# Altium schematic symbol library Amin-Library_S2.SCHLIB: 29 symbols
Pins are listed as number, name and electrical type; pins without a type are passive.

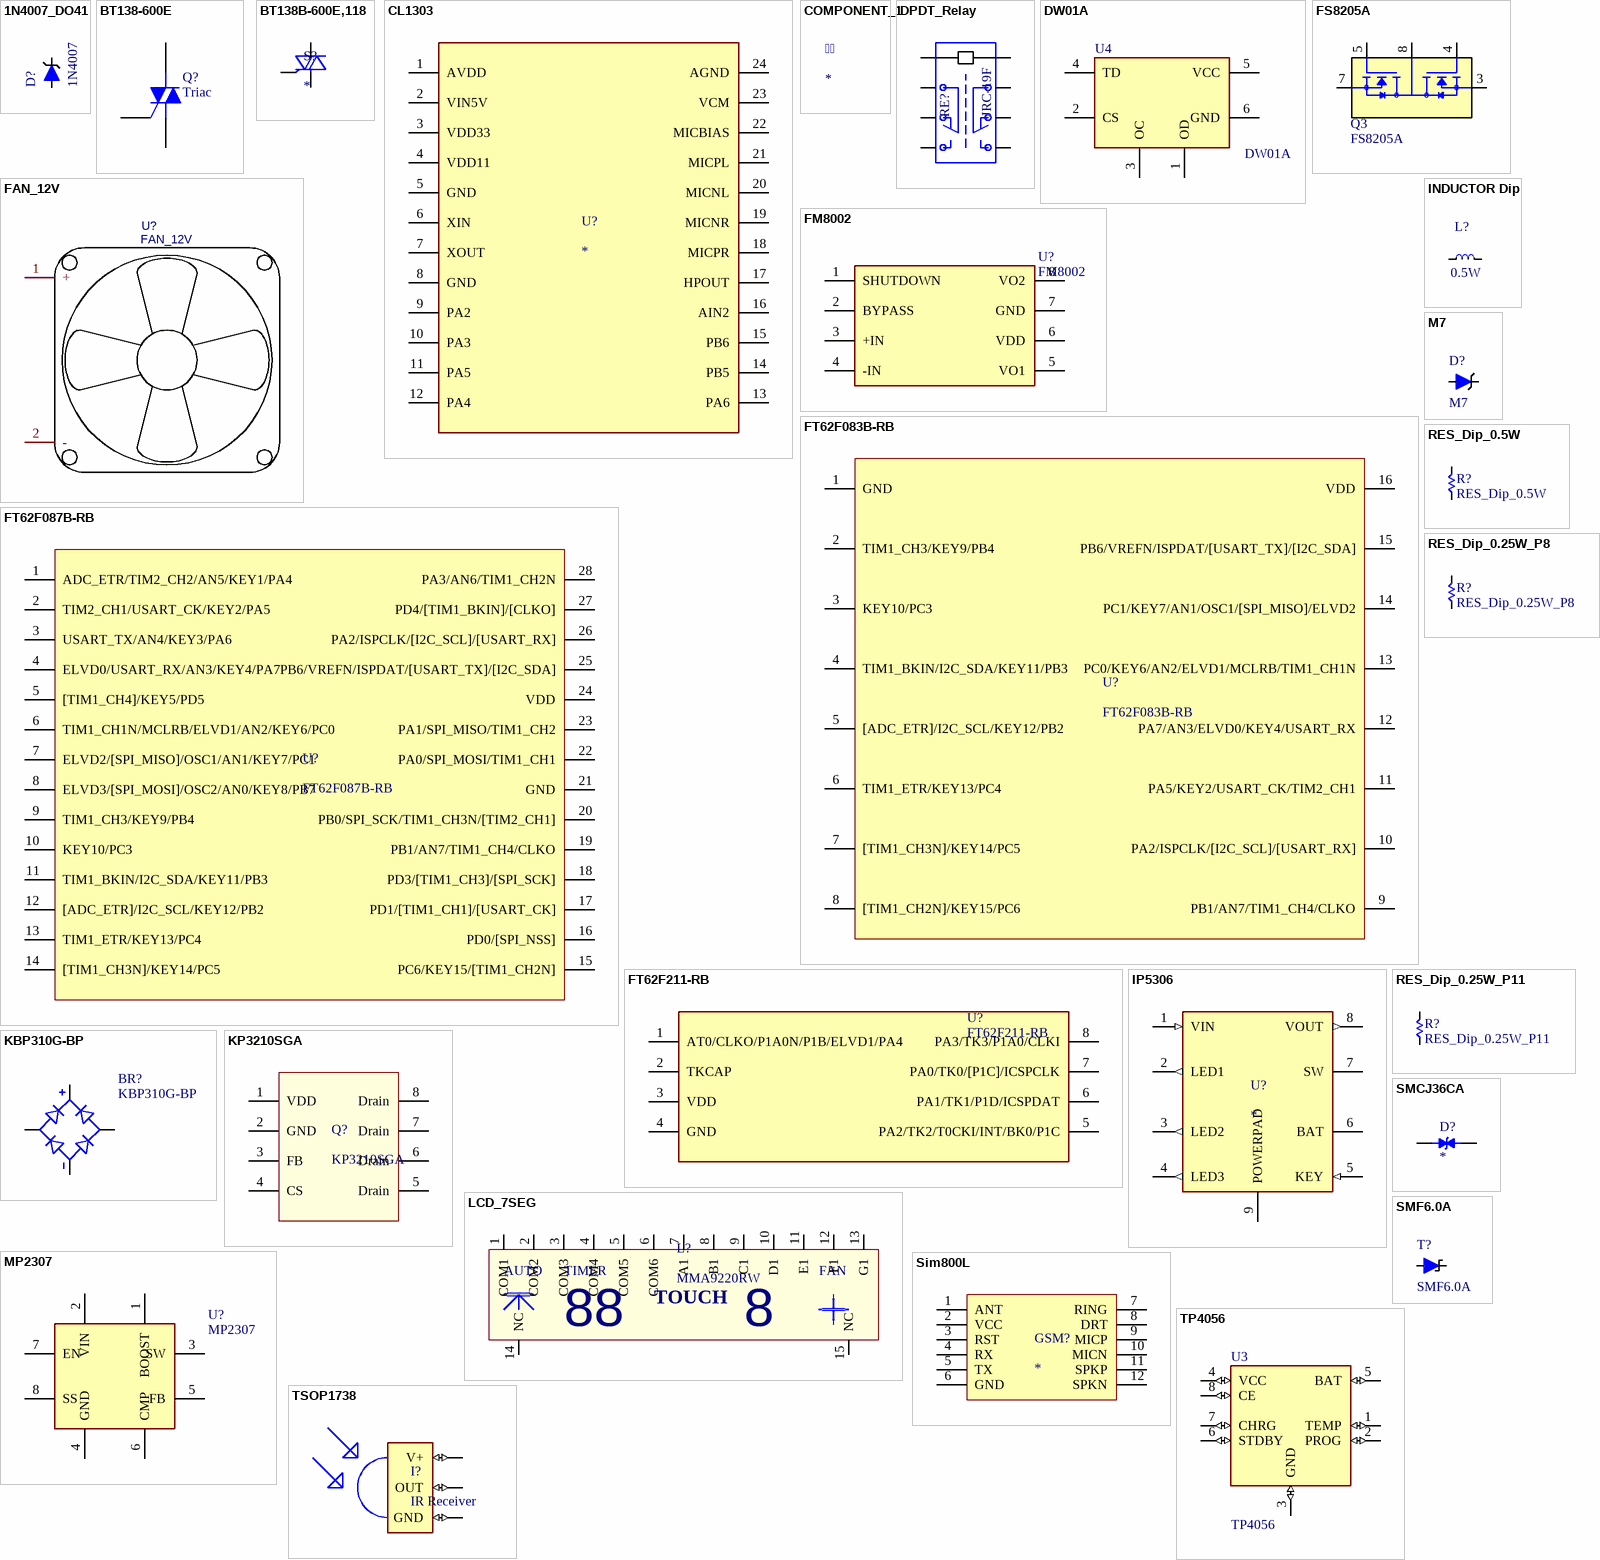
[diagram p0: symbols 1N4007_DO41 to TSOP1738]

## 1N4007_DO41
designator D?, comment 1N4007
1N4007 DO-41; MP: EDZV12B; MF: ROHM Semiconductor; Price: None; Package: None; SnapEDA_Link: https://www.snapeda.com/parts/EDZV12B/EMI/view-part/4479349/?ref=snap; Availability: Unavailable; Value: *
footprint 1N4007_DO41 (DO41)
pins: 1 A, 2 C

## BT138-600E
designator Q?, comment Triac
Silicon Bidirectional Triode Thyristor; Note: Pin 2 is electrically connected to Pin 4 (TAB); Published: 29-Sep-2000; LatestRevisionDate: 17-Jul-2002; LatestRevisionNote: Re-released for DXP Platform.; DatasheetVersion: 1999; PackageReference: 369-03; Publisher: Altium Limited; PackageDescription: TO, Thru-Hole, Vertical, Heatsink Mounted; 3 In-Line Leads; Pitch 2.28 mm; ComponentLink1Description: Manufacturer Link; ComponentLink1URL: http://www.motorola.com/
footprint 369-03 (TO, Thru-Hole, Vertical, Heatsink Mounted; 3 In-Line Leads; Pitch 2.28 mm)
simulation model MAC15A8 (Spice Subcircuit)
footprint TO254P450X1020X1935-3P
pins: 1 M1, 2 M2, 3 G

## BT138B-600E,118
designator S?
TRIAC Logic - Sensitive Gate 600 V 12 A Surface Mount D2PAK; MF: WeEn Semiconductor(Hong Kong)Co.,Limited; MP: BT138B-600E,118; SnapEDA_Link: https://www.snapeda.com/parts/BT138B-600E,118/WeEn+Semiconductors/view-part/?ref=snap; Package: D2PAK WeEn Semiconductors; Value: *; Check_prices: https://www.snapeda.com/parts/BT138B-600E,118/WeEn+Semiconductors/view-part/?ref=eda
footprint BT138B-600E (D2PAK)
footprint BT138B-600E Dip (TO-220AB)
pins: 1 T1, 2 T2, 3 G

## CL1303
designator U?
High Performance Automatic Speech Recognition processor; Manufacturer_Name: Holtek; Manufacturer_Part_Number: BS66F360; Datasheet Link: https://4donline.ihs.com/images/VipMasterIC/IC/HOLS/HOLS-S-A0013887567/HOLS-S-A0013919017-1.pdf?hkey=EF798316E3902B6ED9A73243A3159BB0; Height: 1.6mm
footprint CL1303 (SOP24)
pins: 1 AVDD, 2 VIN5V, 3 VDD33, 4 VDD11, 5 GND, 6 XIN, 7 XOUT, 8 GND, 9 PA2, 10 PA3, 11 PA5, 12 PA4, 13 PA6, 14 PB5, 15 PB6, 16 AIN2, 17 HPOUT, 18 MICPR, 19 MICNR, 20 MICNL, 21 MICPL, 22 MICBIAS, 23 VCM, 24 AGND

## COMPONENT_1
designator 

## DPDT_Relay
designator RE?, comment JRC-19F
DPDT_Relay; MP: EDZV12B; MF: ROHM Semiconductor; Price: None; Package: None; SnapEDA_Link: https://www.snapeda.com/parts/EDZV12B/EMI/view-part/4479349/?ref=snap; Availability: Unavailable; Value: *
footprint DPDT_Relay
pins: 1, 4, 6, 8, 9, 11, 13, 16

## DW01A
designator U4
Litium Battery Protection; MF: Fortune Semiconductor; Price: None; Availability: Unavailable; Package: Package Analog Devices; SnapEDA_Link: https://www.snapeda.com/parts/DW01A/Fortune%20Semiconductor/view-part/4388554/?ref=snap; MP: DW01A; Value: *
footprint DW01A
pins: 1 OD, 2 CS, 3 OC, 4 TD, 5 VCC (power), 6 GND (power)

## FAN_12V
designator U?
FAN 12V 40*40*10mm . XH Connector; Contributor: novasilisko; timeStamp: 1467237407; Manufacturer Part: ?; spicePre: U
footprint FAN_Connector XH (FAN_Connector XH 2.54mm)
pins: 1 +, 2 -

## FM8002
designator U?
PWM/PFM controlled DC-DC buck regulator; MP: MP2307; MF: Monolithic Power; Price: None; Package: SOIC-8 Monolithic Power; Availability: Unavailable; SnapEDA_Link: https://www.snapeda.com/parts/MP2307/Monolithic%20Power%20Systems%20Inc./view-part/2874586/?ref=snap; Value: *
footprint FM8002 (SOP8)
pins: 1 SHUTDOWN, 2 BYPASS, 3 +IN, 4 -IN, 5 VO1, 6 VDD, 7 GND, 8 VO2

## FS8205A
designator Q3
N-Channel Enhancement Mode MOSFET; MF: Fortune Semiconductor; Value: *; Price: None; Package: Package Analog Devices; SnapEDA_Link: https://www.snapeda.com/parts/FS8205A/Fortune%20Semiconductor/view-part/3217108/?ref=snap; Availability: Unavailable; MP: FS8205A
footprint FS8205A (TSSOP-8)
pins: 1 D12, 2 S1, 3 S1, 4 G1, 5 G2, 6 S2, 7 S2, 8 D12

## FT62F083B-RB
designator U?
8-bit Microcontrollers - MCU
footprint FT62F083B-RB (SOP16)
pins: 1 GND, 2 TIM1_CH3/KEY9/PB4, 3 KEY10/PC3, 4 TIM1_BKIN/I2C_SDA/KEY11/PB3, 5 [ADC_ETR]/I2C_SCL/KEY12/PB2, 6 TIM1_ETR/KEY13/PC4, 7 [TIM1_CH3N]/KEY14/PC5, 8 [TIM1_CH2N]/KEY15/PC6, 9 PB1/AN7/TIM1_CH4/CLKO, 10 PA2/ISPCLK/[I2C_SCL]/[USART_RX], 11 PA5/KEY2/USART_CK/TIM2_CH1, 12 PA7/AN3/ELVD0/KEY4/USART_RX, 13 PC0/KEY6/AN2/ELVD1/MCLRB/TIM1_CH1N, 14 PC1/KEY7/AN1/OSC1/[SPI_MISO]/ELVD2, 15 PB6/VREFN/ISPDAT/[USART_TX]/[I2C_SDA], 16 VDD

## FT62F087B-RB
designator U?
8-bit Microcontrollers - MCU
footprint FT62F087B-RB (SOT-28)
pins: 1 ADC_ETR/TIM2_CH2/AN5/KEY1/PA4, 2 TIM2_CH1/USART_CK/KEY2/PA5, 3 USART_TX/AN4/KEY3/PA6, 4 ELVD0/USART_RX/AN3/KEY4/PA7, 5 [TIM1_CH4]/KEY5/PD5, 6 TIM1_CH1N/MCLRB/ELVD1/AN2/KEY6/PC0, 7 ELVD2/[SPI_MISO]/OSC1/AN1/KEY7/PC1, 8 ELVD3/[SPI_MOSI]/OSC2/AN0/KEY8/PB7, 9 TIM1_CH3/KEY9/PB4, 10 KEY10/PC3, 11 TIM1_BKIN/I2C_SDA/KEY11/PB3, 12 [ADC_ETR]/I2C_SCL/KEY12/PB2, 13 TIM1_ETR/KEY13/PC4, 14 [TIM1_CH3N]/KEY14/PC5, 15 PC6/KEY15/[TIM1_CH2N], 16 PD0/[SPI_NSS], 17 PD1/[TIM1_CH1]/[USART_CK], 18 PD3/[TIM1_CH3]/[SPI_SCK], 19 PB1/AN7/TIM1_CH4/CLKO, 20 PB0/SPI_SCK/TIM1_CH3N/[TIM2_CH1], 21 GND, 22 PA0/SPI_MOSI/TIM1_CH1, 23 PA1/SPI_MISO/TIM1_CH2, 24 VDD, 25 PB6/VREFN/ISPDAT/[USART_TX]/[I2C_SDA], 26 PA2/ISPCLK/[I2C_SCL]/[USART_RX], 27 PD4/[TIM1_BKIN]/[CLKO], 28 PA3/AN6/TIM1_CH2N

## FT62F211-RB
designator U?
I/O type 8-bit microcontroller; MP: MP2307; MF: Monolithic Power; Price: None; Package: SOIC-8 Monolithic Power; Availability: Unavailable; SnapEDA_Link: https://www.snapeda.com/parts/MP2307/Monolithic%20Power%20Systems%20Inc./view-part/2874586/?ref=snap; Value: *
footprint FT62F211-RB (SOP8)
pins: 1 AT0/CLKO/P1A0N/P1B/ELVD1/PA4, 2 TKCAP, 3 VDD, 4 GND, 5 PA2/TK2/T0CKI/INT/BK0/P1C, 6 PA1/TK1/P1D/ICSPDAT, 7 PA0/TK0/[P1C]/ICSPCLK, 8 PA3/TK3/P1A0/CLKI

## INDUCTOR Dip
designator L?, comment 0.5W
Inductor Dip 0.5W; MP: DR127-330-R; MF: Eaton; Price: None; Package: Nonstandard Eaton; Availability: Unavailable; SnapEDA_Link: https://www.snapeda.com/parts/DR127-330-R/Eaton/view-part/?ref=snap; Value: *
footprint Inductor DIP Vertical
pins: 1, 2

## IP5306
designator U?
Fully-Integrated Power Bank System-On-Chip with 2.1A charger, 2.4A discharger; MF: Injoinic; MP: IP5306; SnapEDA_Link: https://www.snapeda.com/parts/IP5306/Injoinic/view-part/?ref=snap; Package: SOIC-4 INJOINIC; Value: *; Check_prices: https://www.snapeda.com/parts/IP5306/Injoinic/view-part/?ref=eda
footprint IP5306 (ESOP8)
pins: 1 VIN (in), 2 LED1 (out), 3 LED2 (out), 4 LED3 (out), 5 KEY (in), 6 BAT, 7 SW, 8 VOUT (out), 9 POWERPAD (power)

## KBP310G-BP
designator BR?
Bridge Rectifier KBP310G-BP; Manufacturer_Name: MDD£¨Microdiode Electronics£©; Manufacturer_Part_Number: KBPC1010; Datasheet Link: https://datasheet.lcsc.com/szlcsc/1903051202_MDD-Jiangsu-Yutai-Elec-KBPC1010_C3082.pdf; Height: 5.4mm
footprint KBP310G-BP
pins: 1 P, 2 AC1, 3 AC2, 4 N

## KP3210SGA
designator Q?
High Performance Low Cost Off-line PWM Power Switch; MF: Toshiba Semiconductor; MP: TPHR8504PL,L1Q; Package: SOP-8 Toshiba; Price: None; Value: *; SnapEDA_Link: https://www.snapeda.com/parts/TPHR8504PL,L1Q/Toshiba%20Semiconductor%20and%20Storage/view-part/604439/?ref=snap; Availability: Unavailable
footprint KP3210SGA (SOP-8)
pins: 1 VDD, 2 GND (power), 3 FB (power), 4 CS, 5 Drain, 6 Drain, 7 Drain, 8 Drain

## LCD_7SEG
designator L?, comment MMA9220RW
Custom LCD_7SEG MMA9220RW
footprint LCD-7SEG_Hood_MMA9220RW (MMA9220RW)
pins: 1 COM1, 2 COM2, 3 COM3, 4 COM4, 5 COM5, 6 COM6, 7 A1, 8 B1, 9 C1, 10 D1, 11 E1, 12 F1, 13 G1, 14 NC, 15 NC
text: AUTO; TIMER; FAN; TOUCH

## M7
designator D?
DO-214AC Package; MP: EDZV12B; MF: ROHM Semiconductor; Price: None; Package: None; SnapEDA_Link: https://www.snapeda.com/parts/EDZV12B/EMI/view-part/4479349/?ref=snap; Availability: Unavailable; Value: *
footprint M7 (DO214 variation AC. SMA)
pins: 1 A, 2 C

## MP2307
designator U?
Buck Switching Regulator IC Positive Adjustable 0.925V 1 Output 3A 8-SOIC (0.154, 3.90mm Width) Exposed Pad; MF: Monolithic Power; Price: None; Package: SOIC-8 Monolithic Power; MP: MP2307; Availability: Unavailable; SnapEDA_Link: https://www.snapeda.com/parts/MP2307/Monolithic%20Power%20Systems%20Inc./view-part/2874586/?ref=snap; Value: *
footprint MP2307 (SOIC8)
pins: 1 BOOST, 2 VIN, 3 SW, 4 GND, 5 FB, 6 CMP, 7 EN, 8 SS

## RES_Dip_0.5W
designator R?
Published: 8-Jun-2000; LatestRevisionDate: 29-May-2009; LatestRevisionNote: IPC-7351 Footprint Added.; PackageReference: J1-0603; Publisher: Altium Limited; PackageDescription: Chip Resistor
footprint RES DIP NTC
footprint RES DIP NTC Vertical
pins: 1, 2

## RES_Dip_0.25W_P8
designator R?
Published: 8-Jun-2000; LatestRevisionDate: 29-May-2009; LatestRevisionNote: IPC-7351 Footprint Added.; PackageReference: J1-0603; Publisher: Altium Limited; PackageDescription: Chip Resistor
footprint RES DIP NTC
footprint RES DIP NTC Vertical
footprint RES_DIP_0.25W P8
pins: 1, 2

## RES_Dip_0.25W_P11
designator R?
Published: 8-Jun-2000; LatestRevisionDate: 29-May-2009; LatestRevisionNote: IPC-7351 Footprint Added.; PackageReference: J1-0603; Publisher: Altium Limited; PackageDescription: Chip Resistor
footprint RES DIP NTC
footprint RES DIP NTC Vertical
footprint RES_DIP_0.25W P11
pins: 1, 2

## Sim800L
designator GSM?
footprint Sim800L
pins: 1 ANT, 2 VCC, 3 RST, 4 RX, 5 TX, 6 GND, 7 RING, 8 DRT, 9 MICP, 10 MICN, 11 SPKP, 12 SPKN

## SMCJ36CA
designator D?
1500W, 42.1V, 5%, Bidirectional, TVS; MP: SMCJ36CA; MF: Taiwan Semiconductor; SnapEDA_Link: https://www.snapeda.com/parts/SMCJ36CA/Taiwan+Semiconductor/view-part/?ref=snap; Package: SMC Taiwan Semiconductor; Availability: In Stock; Price: None; Purchase-URL: https://pricing.snapeda.com/search/part/SMCJ36CA/?ref=eda; Check_prices: https://www.snapeda.com/parts/SMCJ36CA/Taiwan+Semiconductor/view-part/?ref=eda; Value: *
footprint SMCJ36CA (DIOM6859X262N)
pins: 1, 2

## SMF6.0A
designator T?
one side TVS Diode; MP: EDZV12B; MF: ROHM Semiconductor; Price: None; Package: None; SnapEDA_Link: https://www.snapeda.com/parts/EDZV12B/EMI/view-part/4479349/?ref=snap; Availability: Unavailable; Value: *
footprint SMF6.0A (SOD-123)
pins: 1 A, 2 C

## TP4056
designator U3
Complete single cell Li-Ion battery with a constant current / constant voltage linear charger; MF: NanJing Top Power ASIC Corp.; Package: Package Analog Devices; MP: TP4056; Value: *; SnapEDA_Link: https://www.snapeda.com/parts/TP4056%20/NanJing%20Top%20Power%20ASIC%20Corp./view-part/2888426/?ref=snap; Price: None; Availability: Unavailable
footprint TP4056 (SOP-9)
pins: 1 TEMP (io), 2 PROG (io), 3 GND (io), 4 VCC (io), 5 BAT (io), 6 STDBY (io), 7 CHRG (io), 8 CE (io)

## TSOP1738
designator I?, comment IR Receiver
IR Remote Receiver 38KHz 35m 3-Pin; MP: TSOP1738.; MF: Vishay; Check_prices: https://www.snapeda.com/parts/TSOP1738./Vishay/view-part/?ref=eda; Value: *; Availability: Not in stock; Price: None; Package: DIP-3 Vishay; SnapEDA_Link: https://www.snapeda.com/parts/TSOP1738./Vishay/view-part/?ref=snap
footprint TSOP17XX (IR Receiver Dip)
footprint TSOP17XX Right (IR Receiver Dip)
footprint TSOP17XX Vertical (IR Receiver Dip)
pins: GND (io), OUT (io), V+ (io)

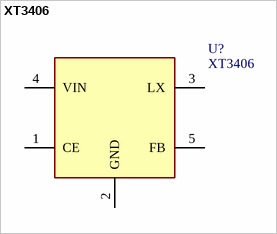
[diagram p1: symbol XT3406]

## XT3406
designator U?
PWM/PFM controlled DC-DC buck regulator; MP: MP2307; MF: Monolithic Power; Price: None; Package: SOIC-8 Monolithic Power; Availability: Unavailable; SnapEDA_Link: https://www.snapeda.com/parts/MP2307/Monolithic%20Power%20Systems%20Inc./view-part/2874586/?ref=snap; Value: *
footprint XT3406 (SOT23-5)
pins: 1 CE, 2 GND, 3 LX, 4 VIN, 5 FB